# Altium footprint library Diode.PcbLib: 37 footprints (part 1 of 3)
Each footprint in its own frame and in the unit in brackets; x right, y up, seen from the top. Pads: shape width x height; smd on the part's side, far side on the other; paste and mask are expansions set on the pad; w line width, h text height; cw(c..) or ccw(c..) is an arc to the next point about the centre after c.
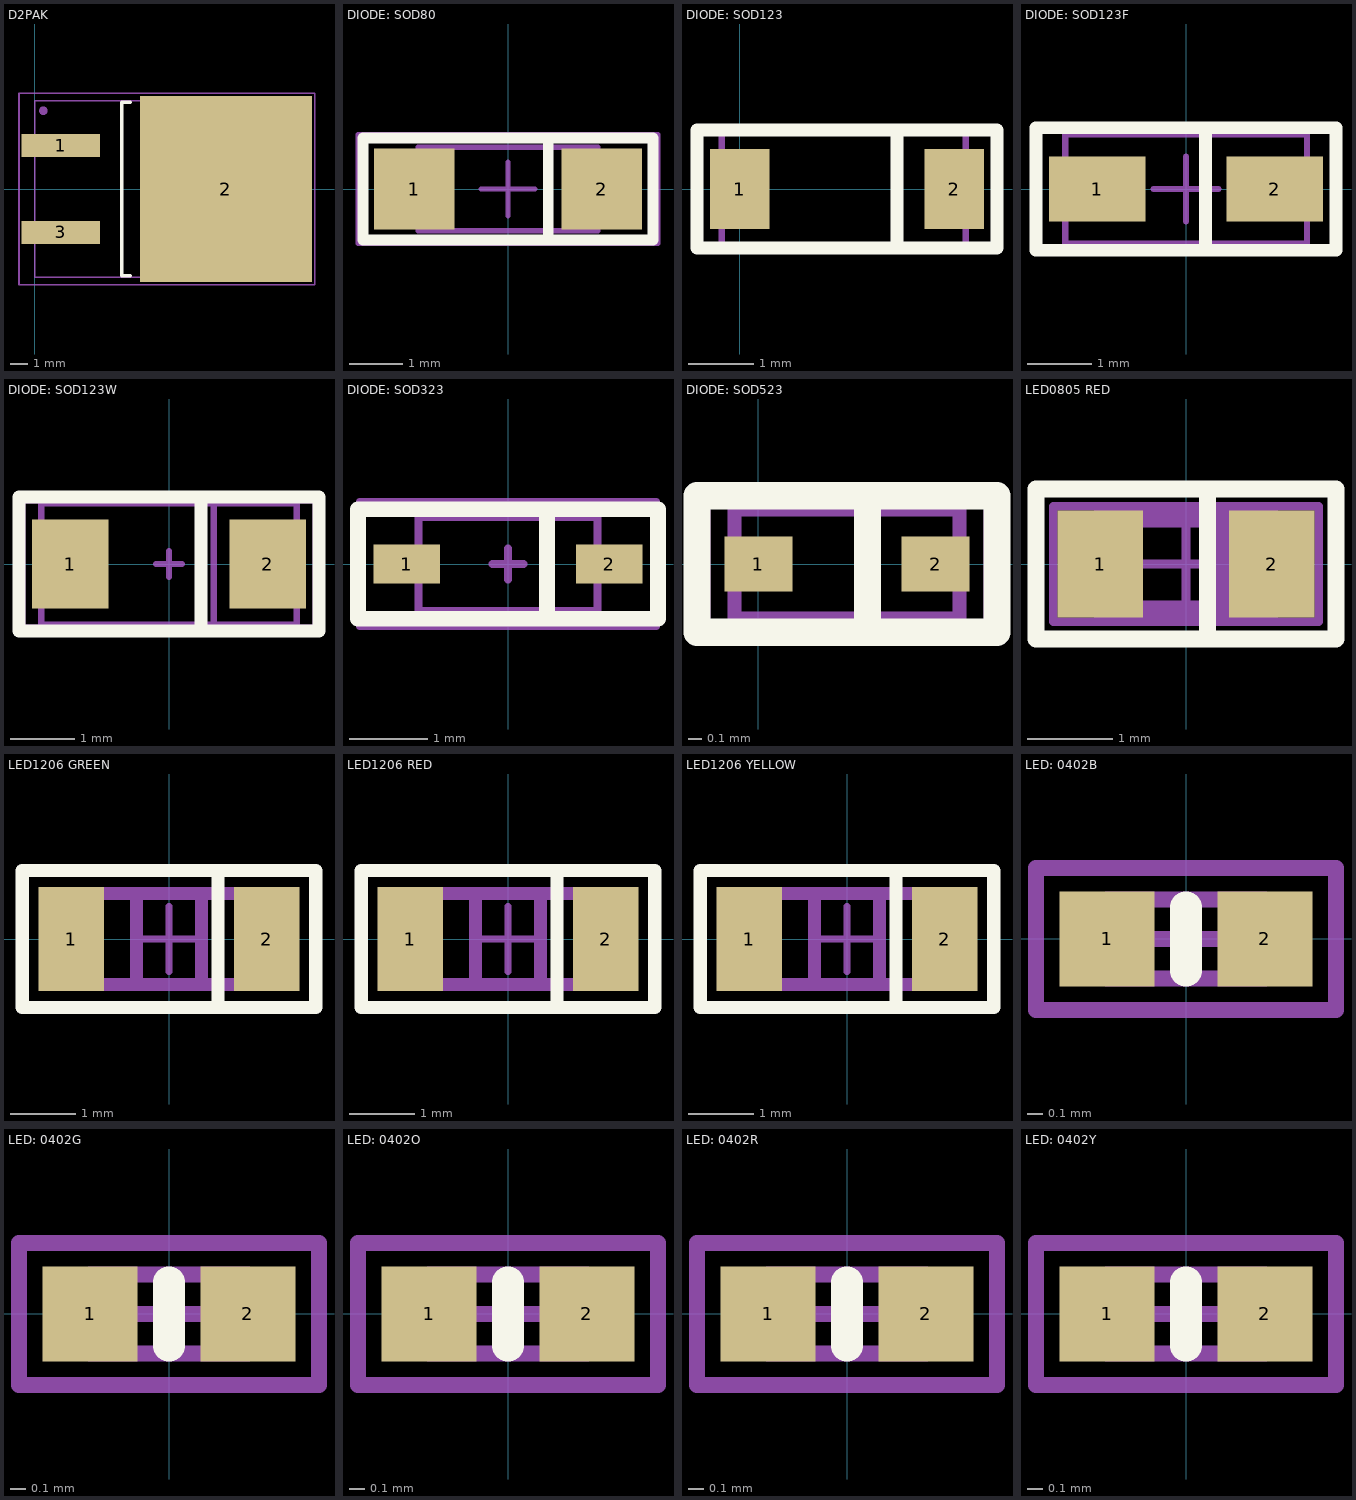
[diagram p0: the footprints below, top view; thin cyan lines are the x and y axes]

## D2PAK [mm]
height 2.38
pads (4):
  rect 4.5x1.3 smd: 1(1.5,2.5) 3(1.5,-2.5)
  rect 9.9x10.7 smd: 2(11,0)
  round 0.5 on Mech6: ""(0.5,4.5)
Top Overlay:
  lines w0.2: 5.5,-5 5,-5 5,5 5.5,5
Top Assembly (Mech6):
  lines w0.1: 0,-5.08 15.264,-5.08 15.264,5.08 0,5.08 0,-5.08
Area:
  lines w0.1: -0.9,-5.5 16.1,-5.5 16.1,5.5 -0.9,5.5 -0.9,-5.5
3D body "User Library-DPAK.STEP": height 4.88, standoff -0.13, extent 0,-5.08 15.264,5.08

## DIODE: SOD80 [mm]
height 2
pads (2):
  rect 1.5x1.5 smd: 1(-1.75,0) 2(1.75,0)
Top Overlay:
  lines w0.2: 0.75,-0.925 0.75,0.925 ; -2.7,-0.95 2.7,-0.95 2.7,0.95 -2.7,0.95 -2.7,-0.95
Top Assembly (Mech6):
  lines w0.1: 0.75,-0.775 0.75,0.775 ; -1.676,-0.775 1.675,-0.775 1.675,0.775 -1.676,0.775 -1.676,-0.775
Area:
  lines w0.1: -0.5,0 0.5,0 ; 0,-0.5 0,0.5 ; -2.794,-1.016 -2.794,1.016 2.794,1.016 2.794,-1.016 -2.794,-1.016
3D body "SOD80-2.step": height 1.52, standoff -0.02, extent -1.676,-0.777 1.677,0.762

## DIODE: SOD123 [mm]
pads (2):
  rect 0.91x1.22 smd: 1(0,0) 2(3.275,0)
Top Overlay:
  lines w0.2: 2.4,-0.9 2.4,0.9 ; -0.65,-0.9 3.925,-0.9 3.925,0.9 -0.65,0.9 -0.65,-0.9
Top Assembly (Mech6):
  lines w0.1: 2.4,-0.9 2.4,0.9 ; -0.275,-0.9 3.45,-0.9 3.45,0.9 -0.275,0.9 -0.275,-0.9
Area:
  lines w0.1: -0.65,-0.9 3.925,-0.9 3.925,0.9 -0.65,0.9 -0.65,-0.9
3D body "User Library-SOD-123.STEP": height 1.25, standoff 0, extent -0.249,-0.8 3.449,0.8

## DIODE: SOD123F [mm]
height 1
pads (2):
  rect 1.5x1 smd: 1(-1.375,0) 2(1.375,0)
Top Overlay:
  lines w0.2: 0.3,-0.9 0.3,0.925 ; -2.325,-0.95 -2.325,0.95 2.325,0.95 2.325,-0.95 -2.325,-0.95
Top Assembly (Mech6):
  lines w0.1: 0.3,-0.85 0.3,0.85 ; -1.875,-0.85 1.875,-0.85 1.875,0.85 -1.875,0.85 -1.875,-0.85
Area:
  lines w0.1: -0.5,0 0.5,0 ; 0,-0.5 0,0.5 ; -2.325,-0.95 2.325,-0.95 2.325,0.95 -2.325,0.95 -2.325,-0.95
3D body "SOD123F.STEP": height 1.23, standoff 0.02, extent -1.875,-0.85 1.875,0.85

## DIODE: SOD123W [mm]
pads (2):
  rect 1.2x1.4 smd: 1(-1.55,0) 2(1.55,0)
Top Overlay:
  lines w0.2: 0.5,-1.05 0.5,1.05 ; -2.35,-1.05 2.35,-1.05 2.35,1.05 -2.35,1.05 -2.35,-1.05
Top Assembly (Mech6):
  lines w0.1: 0.7,-0.95 0.7,0.95 ; 2,-0.95 -2,-0.95 -2,0.95 2,0.95 ; 2,-0.95 2,-0.95 ; 2,-0.95 2,0.95 ; 2,0.95 2,0.95
Area:
  lines w0.1: -0.2,0 0.2,0 ; 0,-0.2 0,0.2 ; -2.3,-1 -2.3,1 2.3,1 2.3,-1 -2.3,-1
3D body "User Library-SOD123W.STEP": height 1.1, standoff -0.01, extent -2,-0.95 2,0.95

## DIODE: SOD323 [mm]
pads (2):
  rect 0.85x0.5 smd: 1(-1.3,0) 2(1.3,0)
Top Overlay:
  lines w0.2: 0.5,-0.7 0.5,0.7 ; -1.925,-0.7 -1.925,0.7 1.925,0.7 1.925,-0.7 -1.925,-0.7
Top Assembly (Mech6):
  lines w0.1: 0.5,-0.6 0.5,0.575 ; -1.15,-0.6 1.15,-0.6 1.15,0.6 -1.15,0.6 -1.15,-0.6
Area:
  lines w0.1: -0.2,0 0.2,0 ; 0,-0.2 0,0.2 ; -1.9,-0.8 -1.9,0.8 1.9,0.8 1.9,-0.8 -1.9,-0.8
3D body "User Library-1N4148WS.STEP": height 1.04, standoff -0.06, extent -1.15,-0.6 1.15,0.6

## DIODE: SOD523 [mm]
pads (2):
  rect 0.5x0.4 smd: 1(0,0) 2(1.3,0)
Top Overlay:
  lines w0.2: 0.8,-0.4 0.8,0.5 ; -0.45,-0.5 1.75,-0.5 1.75,0.5 -0.45,0.5 -0.45,-0.5
Top Assembly (Mech6):
  lines w0.1: 0.8,-0.4 0.8,0.4 ; -0.175,-0.4 -0.175,0.4 1.4,0.4 1.475,0.4 1.475,-0.4 -0.175,-0.4
Area:
  lines w0.1: -0.4,-0.5 1.7,-0.5 1.7,0.5 -0.4,0.5 -0.4,-0.5
3D body "User Library-SOD523-2.STEP": height 0.65, standoff 0, extent -0.175,-0.4 1.475,0.4

## LED0805 RED [mm]
height 1
pads (2):
  rect 1x1.25 smd: 1(-1,0) 2(1,0)
Top Overlay:
  lines w0.2: 0.25,-0.875 0.25,0.875 ; -1.75,-0.875 -1.75,0.875 1.75,0.875 1.75,-0.875 -1.75,-0.875
Top Assembly:
  lines w0.2: 0.4,-0.525 0.4,0.525 ; -1.05,-0.525 1.05,-0.525 1.05,0.525 -1.05,0.525 -1.05,-0.525
  text "+" at -1,-0.475 h1.5
  text "'.Designator'" at -0.5,0.975 h1
Area:
  lines w0.1: -0.5,0 0.5,0 ; 0,-0.5 0,0.5 ; -1.55,-0.675 1.55,-0.675 1.55,0.675 -1.55,0.675 -1.55,-0.675
3D body "User Library-CHIPLED-0805.STEP": height 0.9, standoff -0.01, extent -1.05,-0.675 1.05,0.675

## LED1206 GREEN [mm]
height 0.6
pads (2):
  rect 1x1.6 smd: 1(-1.5,0) 2(1.5,0)
Top Overlay:
  lines w0.2: 0.75,-1.05 0.75,1.05 ; -2.25,-1.05 -2.25,1.05 2.25,1.05 2.25,-1.05 -2.25,-1.05
Top Assembly:
  lines w0.2: -0.5,-0.7 -0.5,0.7 ; 0.5,-0.7 0.5,0.7 ; -1.6,-0.7 -1.6,0.7 1.6,0.7 1.6,-0.7 -1.6,-0.7
  text "'.Designator'" at -0.5,1.5 h1
  text "+" at -1.5,-0.6 h2
Area:
  lines w0.1: -0.5,0 0.5,0 ; 0,-0.5 0,0.5 ; -2.2,-1 2.2,-1 2.2,1 -2.2,1 -2.2,-1
3D body "LED1206G.STEP": height 1.11, standoff -0.4, extent -1.6,-0.8 1.6,0.8

## LED1206 RED [mm]
height 0.6
pads (2):
  rect 1x1.6 smd: 1(-1.5,0) 2(1.5,0)
Top Overlay:
  lines w0.2: 0.75,-1.05 0.75,1.05 ; -2.25,-1.05 -2.25,1.05 2.25,1.05 2.25,-1.05 -2.25,-1.05
Top Assembly:
  lines w0.2: -0.5,-0.7 -0.5,0.7 ; 0.5,-0.7 0.5,0.7 ; -1.6,-0.7 -1.6,0.7 1.6,0.7 1.6,-0.7 -1.6,-0.7
  text "'.Designator'" at -0.5,1.5 h1
  text "+" at -1.5,-0.6 h2
Area:
  lines w0.1: -0.5,0 0.5,0 ; 0,-0.5 0,0.5 ; -2.2,-1 2.2,-1 2.2,1 -2.2,1 -2.2,-1
3D body "LED1206R.STEP": height 1.11, standoff -0.4, extent -1.6,-0.8 1.6,0.8

## LED1206 YELLOW [mm]
height 0.6
pads (2):
  rect 1x1.6 smd: 1(-1.5,0) 2(1.5,0)
Top Overlay:
  lines w0.2: 0.75,-1.05 0.75,1.05 ; -2.25,-1.05 -2.25,1.05 2.25,1.05 2.25,-1.05 -2.25,-1.05
Top Assembly:
  lines w0.2: -0.5,-0.7 -0.5,0.7 ; 0.5,-0.7 0.5,0.7 ; -1.6,-0.7 -1.6,0.7 1.6,0.7 1.6,-0.7 -1.6,-0.7
  text "'.Designator'" at -0.5,1.5 h1
  text "+" at -1.5,-0.6 h2
Area:
  lines w0.1: -0.5,0 0.5,0 ; 0,-0.5 0,0.5 ; -2.2,-1 2.2,-1 2.2,1 -2.2,1 -2.2,-1
3D body "LED1206Y.STEP": height 1.11, standoff -0.4, extent -1.6,-0.8 1.6,0.8

## LED: 0402B [mm]
height 0.35
pads (2):
  rect 0.6x0.6 smd: 1(-0.5,0) 2(0.5,0)
Top Overlay:
  lines w0.2: 0,-0.2 0,0.2
Top Assembly:
  lines w0.1: -0.5,-0.25 0.5,-0.25 0.5,0.25 -0.5,0.25 -0.5,-0.25
Area:
  lines w0.1: -0.25,0 0.25,0 ; 0,-0.25 0,0.25 ; -0.95,-0.45 0.95,-0.45 0.95,0.45 -0.95,0.45 -0.95,-0.45
3D body "666.STEP": height 0.45, standoff 0, extent -0.505,-0.25 0.505,0.25

## LED: 0402G [mm]
height 0.35
pads (2):
  rect 0.6x0.6 smd: 1(-0.5,0) 2(0.5,0)
Top Overlay:
  lines w0.2: 0,-0.2 0,0.2
Top Assembly:
  lines w0.1: -0.5,-0.25 0.5,-0.25 0.5,0.25 -0.5,0.25 -0.5,-0.25
Area:
  lines w0.1: -0.25,0 0.25,0 ; 0,-0.25 0,0.25 ; -0.95,-0.45 0.95,-0.45 0.95,0.45 -0.95,0.45 -0.95,-0.45
3D body "User Library-led_0402 green.STEP": height 0.45, standoff 0, extent -0.505,-0.25 0.505,0.25

## LED: 0402O [mm]
height 0.35
pads (2):
  rect 0.6x0.6 smd: 1(-0.5,0) 2(0.5,0)
Top Overlay:
  lines w0.2: 0,-0.2 0,0.2
Top Assembly:
  lines w0.1: -0.5,-0.25 -0.5,0.25 0.5,0.25 0.5,-0.25 -0.5,-0.25
Area:
  lines w0.1: -0.25,0 0.25,0 ; 0,-0.25 0,0.25 ; -0.95,-0.45 -0.95,0.45 0.95,0.45 0.95,-0.45 -0.95,-0.45
3D body "8888.STEP": height 0.45, standoff 0, extent -0.505,-0.25 0.505,0.25

## LED: 0402R [mm]
height 0.35
pads (2):
  rect 0.6x0.6 smd: 1(-0.5,0) 2(0.5,0)
Top Overlay:
  lines w0.2: 0,-0.2 0,0.2
Top Assembly:
  lines w0.1: -0.5,-0.25 0.5,-0.25 0.5,0.25 -0.5,0.25 -0.5,-0.25
Area:
  lines w0.1: -0.25,0 0.25,0 ; 0,-0.25 0,0.25 ; -0.95,-0.45 0.95,-0.45 0.95,0.45 -0.95,0.45 -0.95,-0.45
3D body "User Library-led_0402.STEP": height 0.48, standoff 0.03, extent -0.505,-0.25 0.505,0.25

## LED: 0402Y [mm]
height 0.35
pads (2):
  rect 0.6x0.6 smd: 1(-0.5,0) 2(0.5,0)
Top Overlay:
  lines w0.2: 0,-0.2 0,0.2
Top Assembly:
  lines w0.1: -0.5,-0.25 -0.5,0.25 0.5,0.25 0.5,-0.25 -0.5,-0.25
Area:
  lines w0.1: -0.25,0 0.25,0 ; 0,-0.25 0,0.25 ; -0.95,-0.45 -0.95,0.45 0.95,0.45 0.95,-0.45 -0.95,-0.45
3D body "777.STEP": height 0.45, standoff 0, extent -0.505,-0.25 0.505,0.25